# Altium footprint library 2020-02-11_03-36-15.PcbLib: 3 footprints
Each footprint in its own frame and in the unit in brackets; x right, y up, seen from the top. Pads: shape width x height; smd on the part's side, far side on the other; paste and mask are expansions set on the pad; w line width, h text height; cw(c..) or ccw(c..) is an arc to the next point about the centre after c.
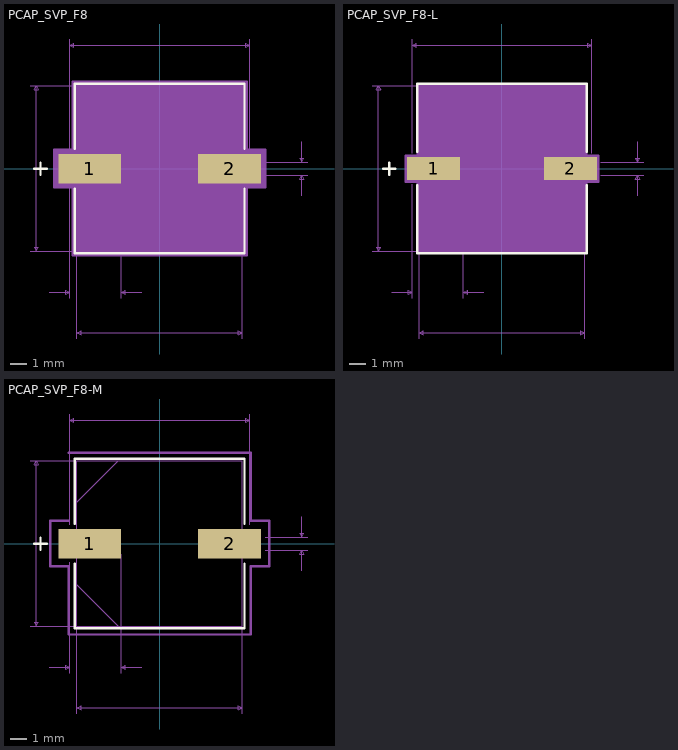
[diagram p0: the footprints below, top view; thin cyan lines are the x and y axes]

## PCAP_SVP_F8 [mil]
pads (2):
  rect 154x72 smd paste+0 mask+0: 1(-171.5,0) 2(171.5,0)
Top Overlay:
  lines w6: -307.5,0 -277.5,0 ; -292.5,-15 -292.5,15 ; -208,-49.1 -208,-208 208,-208 208,-49.1 ; -208,49.1 -208,208 208,208 208,49.1
Mechanical 7:
  lines w1: -318,-203 -203,-203 -203,-418 ; -318,203 -203,203 ; -270.5,-303 -220.5,-303 ; -220.5,-318 -220.5,-46 ; -220.5,46 -220.5,318 ; -94.5,-318 -94.5,-26 ; -44.5,-303 -94.5,-303 ; 203,-418 203,-203 ; 220.5,46 220.5,318 ; 258.5,-16 363.5,-16 ; 258.5,16 363.5,16 ; 348.5,-66 348.5,-16 ; 348.5,66 348.5,16 ; -303,-203 -298,-193 -308,-193 -303,-203 ; -303,-203 -303,203 ; -303,203 -298,193 -308,193 -303,203 ; -220.5,-303 -230.5,-308 -230.5,-298 -220.5,-303 ; -220.5,303 -210.5,298 -210.5,308 -220.5,303 ; -220.5,303 220.5,303 ; -203,-403 -193,-408 -193,-398 -203,-403 ; -203,-403 203,-403 ; -94.5,-303 -84.5,-308 -84.5,-298 -94.5,-303 ; 203,-403 193,-408 193,-398 203,-403 ; 220.5,303 210.5,298 210.5,308 220.5,303 ; 348.5,-16 353.5,-26 343.5,-26 348.5,-16 ; 348.5,16 353.5,26 343.5,26 348.5,16
  text "0.406in/10.312mm" at -100,-448 h25
  text "0.126in/3.2mm" at -238.75,-348 h25
  text "0.406in/10.312mm" at -523,-12.5 h25
  text "0.441in/11.201mm" at -100,323 h25
  text "0.032in/0.813mm" at 368.5,-12.5 h25
  text "Alternate 2 Padstyle: OX90Y60D30P" at -412.5,-639 h50
  text "Alternate 1 Padstyle: OX60Y90D30P" at -412.5,-539 h50
  text "Default Padstyle: RX154Y72D0T" at -362.5,-439 h50
Mechanical 13:
  lines w1: -307.5,0 -277.5,0 ; -292.5,-15 -292.5,15 ; -203,-101.5 -101.5,-203 ; -203,101.5 -101.5,203 ; -203,-203 -203,203 203,203 203,-203 -203,-203
Mechanical 15:
  region: -213,-46 -258.5,-46 -258.5,46 -213,46 -213,213 213,213 213,46 258.5,46 258.5,-46 213,-46 213,-213 -213,-213
  lines w6: -258.5,-46 -213,-46 -213,-213 213,-213 213,-46 258.5,-46 258.5,46 213,46 213,213 -213,213 -213,46 -258.5,46 -258.5,-46
3D body: height 10, standoff 0, extent 0,0 10,10

## PCAP_SVP_F8-L [mil]
pads (2):
  rect 130x56 smd paste+0 mask+0: 1(-167.5,0) 2(167.5,0)
Top Overlay:
  lines w6: -291.5,0 -261.5,0 ; -276.5,-15 -276.5,15 ; -208,-41.1 -208,-208 208,-208 208,-41.1 ; -208,41.1 -208,208 208,208 208,41.1
Mechanical 7:
  lines w1: -318,-203 -203,-203 -203,-418 ; -318,203 -203,203 ; -270.5,-303 -220.5,-303 ; -220.5,-318 -220.5,-38 ; -220.5,38 -220.5,318 ; -94.5,-318 -94.5,-18 ; -44.5,-303 -94.5,-303 ; 203,-418 203,-203 ; 220.5,38 220.5,318 ; 242.5,-16 347.5,-16 ; 242.5,16 347.5,16 ; 332.5,-66 332.5,-16 ; 332.5,66 332.5,16 ; -303,-203 -298,-193 -308,-193 -303,-203 ; -303,-203 -303,203 ; -303,203 -298,193 -308,193 -303,203 ; -220.5,-303 -230.5,-308 -230.5,-298 -220.5,-303 ; -220.5,303 -210.5,298 -210.5,308 -220.5,303 ; -220.5,303 220.5,303 ; -203,-403 -193,-408 -193,-398 -203,-403 ; -203,-403 203,-403 ; -94.5,-303 -84.5,-308 -84.5,-298 -94.5,-303 ; 203,-403 193,-408 193,-398 203,-403 ; 220.5,303 210.5,298 210.5,308 220.5,303 ; 332.5,-16 337.5,-26 327.5,-26 332.5,-16 ; 332.5,16 337.5,26 327.5,26 332.5,16
  text "0.406in/10.312mm" at -100,-448 h25
  text "0.126in/3.2mm" at -238.75,-348 h25
  text "0.406in/10.312mm" at -523,-12.5 h25
  text "0.441in/11.201mm" at -100,323 h25
  text "0.032in/0.813mm" at 352.5,-12.5 h25
  text "Alternate 2 Padstyle: OX90Y60D30P" at -412.5,-647 h50
  text "Alternate 1 Padstyle: OX60Y90D30P" at -412.5,-547 h50
  text "Default Padstyle: RX130Y56D0T" at -362.5,-447 h50
Mechanical 13:
  lines w1: -291.5,0 -261.5,0 ; -276.5,-15 -276.5,15 ; -203,-101.5 -101.5,-203 ; -203,101.5 -101.5,203 ; -203,-203 -203,203 203,203 203,-203 -203,-203
Mechanical 15:
  region: -207,-32 -236.5,-32 -236.5,32 -207,32 -207,207 207,207 207,32 236.5,32 236.5,-32 207,-32 207,-207 -207,-207
  lines w6: -236.5,-32 -207,-32 -207,-207 207,-207 207,-32 236.5,-32 236.5,32 207,32 207,207 -207,207 -207,32 -236.5,32 -236.5,-32
3D body: height 10, standoff 0, extent 0,0 10,10

## PCAP_SVP_F8-M [mil]
pads (2):
  rect 154x72 smd paste+0 mask+0: 1(-171.5,0) 2(171.5,0)
Top Overlay:
  lines w6: -307.5,0 -277.5,0 ; -292.5,-15 -292.5,15 ; -208,-49.1 -208,-208 208,-208 208,-49.1 ; -208,49.1 -208,208 208,208 208,49.1
Mechanical 7:
  lines w1: -318,-203 -203,-203 -203,-418 ; -318,203 -203,203 ; -270.5,-303 -220.5,-303 ; -220.5,-318 -220.5,-46 ; -220.5,46 -220.5,318 ; -94.5,-318 -94.5,-26 ; -44.5,-303 -94.5,-303 ; 203,-418 203,-203 ; 220.5,46 220.5,318 ; 258.5,-16 363.5,-16 ; 258.5,16 363.5,16 ; 348.5,-66 348.5,-16 ; 348.5,66 348.5,16 ; -303,-203 -298,-193 -308,-193 -303,-203 ; -303,-203 -303,203 ; -303,203 -298,193 -308,193 -303,203 ; -220.5,-303 -230.5,-308 -230.5,-298 -220.5,-303 ; -220.5,303 -210.5,298 -210.5,308 -220.5,303 ; -220.5,303 220.5,303 ; -203,-403 -193,-408 -193,-398 -203,-403 ; -203,-403 203,-403 ; -94.5,-303 -84.5,-308 -84.5,-298 -94.5,-303 ; 203,-403 193,-408 193,-398 203,-403 ; 220.5,303 210.5,298 210.5,308 220.5,303 ; 348.5,-16 353.5,-26 343.5,-26 348.5,-16 ; 348.5,16 353.5,26 343.5,26 348.5,16
  text "0.406in/10.312mm" at -100,-448 h25
  text "0.126in/3.2mm" at -238.75,-348 h25
  text "0.441in/11.201mm" at -100,323 h25
  text "0.032in/0.813mm" at 368.5,-12.5 h25
  text "Alternate 2 Padstyle: OX90Y60D30P" at -412.5,-639 h50
  text "Alternate 1 Padstyle: OX60Y90D30P" at -412.5,-539 h50
  text "Default Padstyle: RX154Y72D0T" at -362.5,-439 h50
Mechanical 13:
  lines w1: -307.5,0 -277.5,0 ; -292.5,-15 -292.5,15 ; -203,-101.5 -101.5,-203 ; -203,101.5 -101.5,203 ; -203,-203 -203,203 203,203 203,-203 -203,-203
Mechanical 15:
  lines w6: -223,56 -268.5,56 -268.5,-56 -223,-56 -223,-223 223,-223 223,-56 268.5,-56 268.5,56 223,56 223,223 -223,223
3D body: height 10, standoff 0, extent 0,0 10,10